# Altium footprint library PCB - SWITCH - CTS 218-4LPSTR.PCBLIB: 1 footprints
Each footprint in its own frame and in the unit in brackets; x right, y up, seen from the top. Pads: shape width x height; smd on the part's side, far side on the other; paste and mask are expansions set on the pad; w line width, h text height; cw(c..) or ccw(c..) is an arc to the next point about the centre after c.
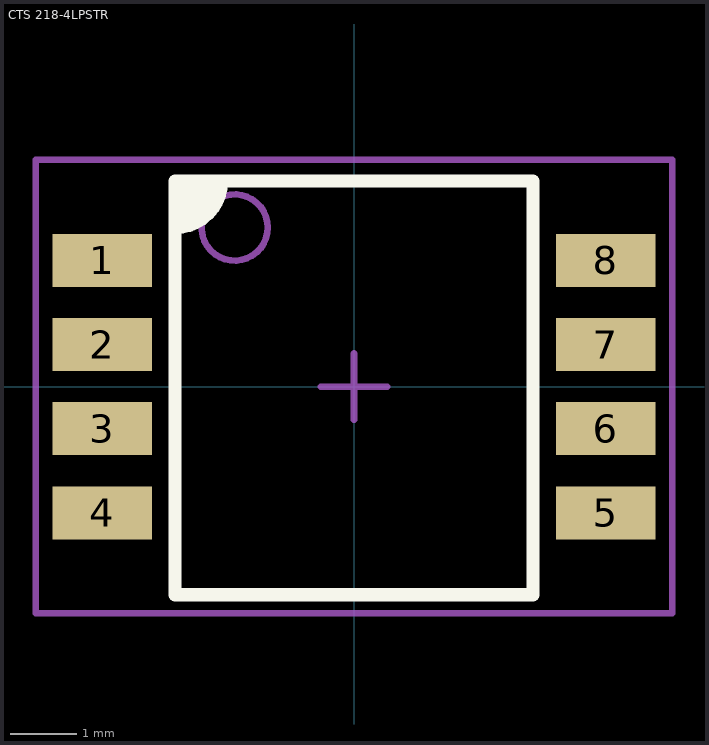
[diagram p0: the footprint, top view; thin cyan lines are the x and y axes]

## CTS 218-4LPSTR [mm] "DIP, 6 POS, Body 6.25x5.8mm, Pitch 1.27mm, IPC Medium Density"
height 2.7
pads (8):
  rect 1.5x0.8 smd: 1(-3.8,1.905) 2(-3.8,0.635) 3(-3.8,-0.635) 4(-3.8,-1.905) 5(3.8,-1.905) 6(3.8,-0.635) 7(3.8,0.635) 8(3.8,1.905)
Top Overlay:
  region: -2.7,3.1 -2.7,2.35 -2.5,2.35 -2,2.85 -2,3.1
  lines w0.2: -2.7,2.4 ccw(c-2.7,3.1) -2,3.1 ; -2.7,-3.14 -2.7,3.1 2.7,3.1 2.7,-3.14 -2.7,-3.14
Mechanical 13:
  circle w0.1: c-1.8,2.4 r0.5
  lines w0.1: -2.7,-3.125 2.7,-3.125 2.7,3.125 -2.7,3.125 -2.7,-3.125
Mechanical 15:
  lines w0.1: -0.5,0 0.5,0 ; 0,-0.5 0,0.5 ; -4.8,-3.42 4.8,-3.42 4.8,3.42 -4.8,3.42 -4.8,-3.42
3D body "218-4LP.STEP": height 2.5, standoff -0.01, extent -4.216,-3.1 4.216,3.15